# EAGLE library part LCD (library ProjectComponent)
Multi connection point. Often used as Generic Header-pin footprint for 0.1 inch spaced/style header connections On any of the 0.1 inch spaced packages, you can populate with these: Break Away Headers - Straight <https://www.sparkfun.com/products/116> (PRT-00116) Break Away Male Headers - Right Angle <https://www.sparkfun.com/products/553> (PRT-00553) Female Headers <https://www.sparkfun.com/products/115> (PRT-00115) Break Away Headers - Machine Pin <https://www.sparkfun.com/products/117> (PRT-00117) Break Away Female Headers - Swiss Machine Pin <https://www.sparkfun.com/products/743> (PRT-00743) For SCREWTERMINALS and SPRING TERMINALS visit here: Screw Terimnals on SparkFun.com <https://www.sparkfun.com/search/results?term=Screw+Terminals> (5mm/3.5mm/2.54mm spacing) This device is also useful as a general connection point to wire up your design to another part of your project. Our various solder wires solder well into these plated through hole pads. Hook-Up Wire - Assortment (Stranded, 22 AWG) <https://www.sparkfun.com/products/11375> (PRT-11375) Hook-Up Wire - Assortment (Solid Core, 22 AWG) <https://www.sparkfun.com/products/11367> (PRT-11367) View the entire wire category on our website here <https://www.sparkfun.com/categories/141> Special notes: Molex polarized connector foot print use with SKU : PRT-08231 with associated crimp pins and housings. 1MM SMD Version SKU: PRT-10208 NOTES ON THE VARIANTS LOCK and LOCK_LONGPADS... This footprint was designed to help hold the alignment of a through-hole component (i.e. 6-pin header) while soldering it into place. You may notice that each hole has been shifted either up or down by 0.005 of an inch from it's more standard position (which is a perfectly straight line). This slight alteration caused the pins (the squares in the middle) to touch the edges of the holes. Because they are alternating, it causes a "brace" to hold the component in place. 0.005 has proven to be the perfect amount of "off-center" position when using our standard breakaway headers. Although looks a little odd when you look at the bare footprint, once you have a header in there, the alteration is very hard to notice. Also,if you push a header all the way into place, it is covered up entirely on the bottom side.
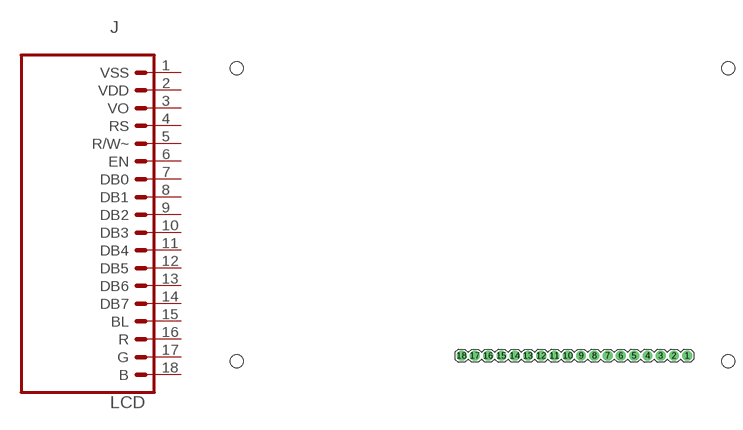
[diagram p2: symbol with the pads of 1X18; footprint 1X18]

Designator prefix J

## LCD  [1X18]
1  VSS  pas
2  VDD  pas
3  VO  pas
4  RS  pas
5  R/W~  pas
6  EN  pas
7  DB0  pas
8  DB1  pas
9  DB2  pas
10  DB3  pas
11  DB4  pas
12  DB5  pas
13  DB6  pas
14  DB7  pas
15  BL  pas
16  R  pas
17  G  pas
18  B  pas

## Footprint 1X18 (pad centres in mm)
Plated Through Hole -18 Pin Specifications: Pin count:18 Pin pitch:0.1" Example device(s): CONN_18
drill 1.016 pad 1.88: 1 43.18,0; 2 40.64,0; 3 38.1,0; 4 35.56,0; 5 33.02,0; 6 30.48,0; 7 27.94,0; 8 25.4,0; 9 22.86,0; 10 20.32,0; 11 17.78,0; 12 15.24,0; 13 12.7,0; 14 10.16,0; 15 7.62,0; 16 5.08,0; 17 2.54,0; 18 0,0
hole 2.5 at -43,-1
hole 2.5 at -43,55
hole 2.5 at 51,55
hole 2.5 at 51,-1